# Altium schematic symbol library MMBT2907ALT1G.SchLib: 1 symbol
Pins are listed as number, name and electrical type; pins without a type are passive.

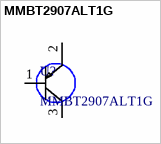
[diagram p0: symbol MMBT2907ALT1G]

## MMBT2907ALT1G
designator U?
No Description Available; Mfr_Name: onsemi; Copyright: Copyright (C) 2022 Ultra Librarian. All rights reserved.; Manufacturer_Part_Number: MMBT2907ALT1G; RefDes: RefDes; Type: DEV
footprint SOT-23_ONS
pins: 1 B, 2 E, 3 C